# Altium schematic symbol library Diode_Littelfuse_SP3003-02JTG_eec.SchLib: 1 symbol
Pins are listed as number, name and electrical type; pins without a type are passive.

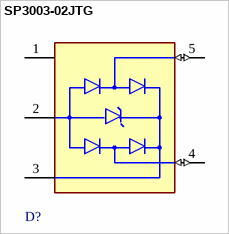
[diagram p0: symbol SP3003-02JTG]

## SP3003-02JTG
designator D?  (value not drawn)
pins: 1 NC, 2 GND (power), 3 VCC (power), 4 I/O2 (io), 5 I/O1 (io)